# Altium schematic symbol library SCH - MCU - ATTINY - MICROCHIP ATTINY84A-SSU SOIC14.SchLib: 1 symbol
Pins are listed as number, name and electrical type; pins without a type are passive.

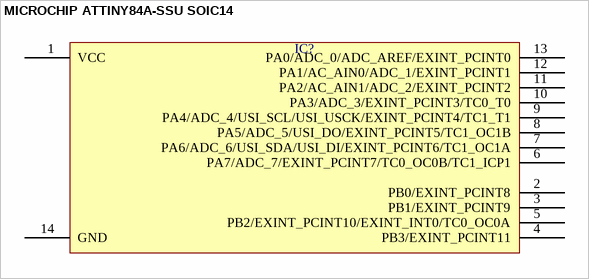
[diagram p0: symbol MICROCHIP ATTINY84A-SSU SOIC14]

## MICROCHIP ATTINY84A-SSU SOIC14
designator IC?  (value not drawn)
pins: 1 VCC, 2 PB0/EXINT_PCINT8, 3 PB1/EXINT_PCINT9, 4 PB3/EXINT_PCINT11, 5 PB2/EXINT_PCINT10/EXINT_INT0/TC0_OC0A, 6 PA7/ADC_7/EXINT_PCINT7/TC0_OC0B/TC1_ICP1, 7 PA6/ADC_6/USI_SDA/USI_DI/EXINT_PCINT6/TC1_OC1A, 8 PA5/ADC_5/USI_DO/EXINT_PCINT5/TC1_OC1B, 9 PA4/ADC_4/USI_SCL/USI_USCK/EXINT_PCINT4/TC1_T1, 10 PA3/ADC_3/EXINT_PCINT3/TC0_T0, 11 PA2/AC_AIN1/ADC_2/EXINT_PCINT2, 12 PA1/AC_AIN0/ADC_1/EXINT_PCINT1, 13 PA0/ADC_0/ADC_AREF/EXINT_PCINT0, 14 GND